# Altium footprint library 1000uF_63V.PcbLib: 1 footprints
Each footprint in its own frame and in the unit in brackets; x right, y up, seen from the top. Pads: shape width x height; smd on the part's side, far side on the other; paste and mask are expansions set on the pad; w line width, h text height; cw(c..) or ccw(c..) is an arc to the next point about the centre after c.
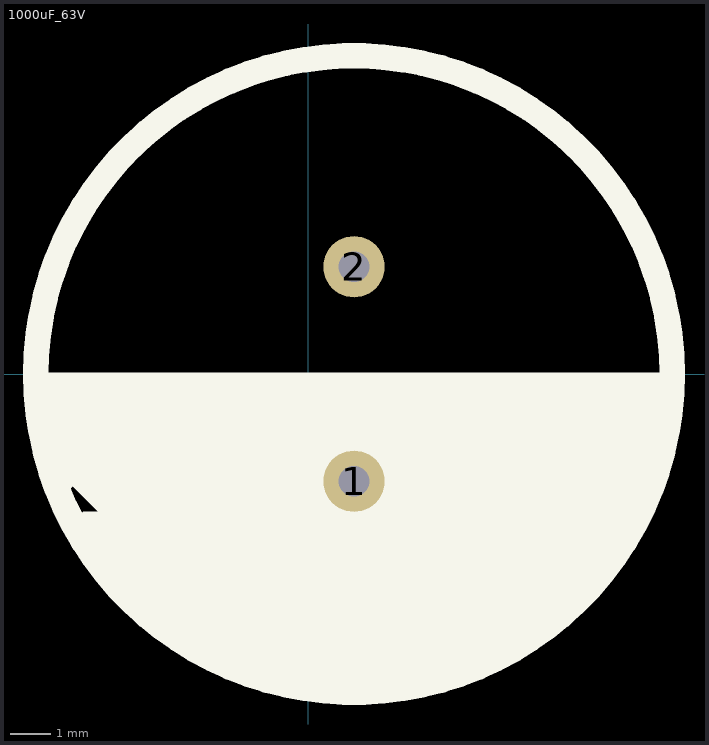
[diagram p0: the footprint, top view; thin cyan lines are the x and y axes]

## 1000uF_63V [mil]
pads (2):
  round 60 hole 30: 1(45,-105) 2(45,105)
Top Overlay:
  circle w25: c45,0 r311.33
  region: -265,-5 -258.67,1.33 355,1.33 355,-45 345,-55 345,-110 310,-145 310,-180 265,-225 260,-225 210,-275 170,-275 140,-305 75,-305 70,-310 -15,-310 -35,-290 -95,-290 -160,-240 -165,-230 -231.25,-163.75 -249.51,-96.78 -250.66,-95.19 -245,-120 -240,-120 -230,-110 -205,-135 -220,-135 -235,-150 -245,-115 -265,-60
  lines w10: -260,25 -260,50 ; 295,175 305,165 ; 345,80 345,65 350,60 350,50 ; 355,18.16 355,35 355,1.33 356.33,0
3D body "HITANO 1000uF 63V ESX.STEP": height 1420.47, standoff -1087.4, extent -270.28,-315.16 360,315.16